# Altium schematic symbol library AnanasSTM32.SchLib: 3 symbols
Pins are listed as number, name and electrical type; pins without a type are passive.

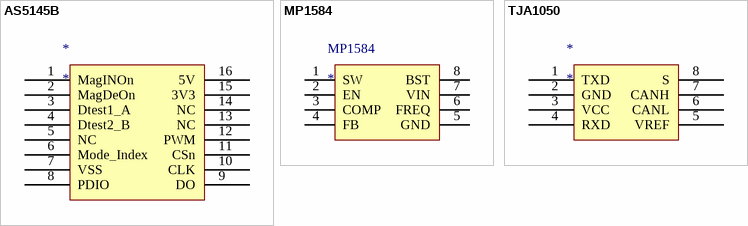
[diagram p0: symbols AS5145B to TJA1050]

## AS5145B
designator *
footprint SSOP16_M (SOP, 16-Leads, Body 6.2x5.3mm, Pitch 0.65mm, IPC Low Density)
pins: 1 MagINOn, 2 MagDeOn, 3 Dtest1_A, 4 Dtest2_B, 5 NC, 6 Mode_Index, 7 VSS, 8 PDIO, 9 DO, 10 CLK, 11 CSn, 12 PWM, 13 NC, 14 NC, 15 3V3, 16 5V

## MP1584
designator MP1584
footprint LC-SOIC-8_150mil
footprint Model Name (Footprint not found)
pins: 1 SW, 2 EN, 3 COMP, 4 FB, 5 GND, 6 FREQ, 7 VIN, 8 BST

## TJA1050
designator *
footprint LC-SOIC-8_150mil
footprint Model Name (Footprint not found)
pins: 1 TXD, 2 GND, 3 VCC, 4 RXD, 5 VREF, 6 CANL, 7 CANH, 8 S